# EAGLE library part MT8870 (library DTMF Arduino)
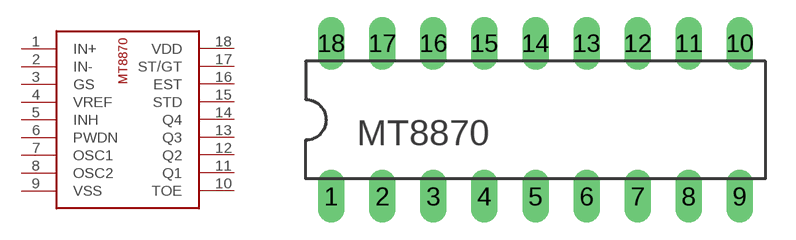
[diagram p1: symbol with the pads of MT8870; footprint MT8870]

Designator prefix -

## MT8870  [MT8870]
1  IN+
2  IN-
3  GS
4  VREF
5  INH
6  PWDN
7  OSC1
8  OSC2
9  VSS
10  TOE
11  Q1
12  Q2
13  Q3
14  Q4
15  STD
16  EST
17  ST/GT
18  VDD

## Footprint MT8870 (pad centres in mm)
drill 0.813 long: 1 -10.16,-3.81; 2 -7.62,-3.81; 3 -5.08,-3.81; 4 -2.54,-3.81; 5 0,-3.81; 6 2.54,-3.81; 7 5.08,-3.81; 8 7.62,-3.81; 9 10.16,-3.81; 10 10.16,3.81; 11 7.62,3.81; 12 5.08,3.81; 13 2.54,3.81; 14 0,3.81; 15 -2.54,3.81; 16 -5.08,3.81; 17 -7.62,3.81; 18 -10.16,3.81